# Altium integrated library SJ2-25964A-SMT-TR-2.IntLib: 1 symbol
Pins are listed as number, name and electrical type; pins without a type are passive.

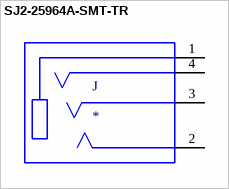
[diagram p0: symbol SJ2-25964A-SMT-TR]

## SJ2-25964A-SMT-TR
designator J
2.5 mm, Stereo, Right Angle, Surface Mount (SMT), Audio Jack Connector; MP: SJ2-25964A-SMT-TR; MF: CUI Devices; Package: None; Availability: Unavailable; Value: *; SnapEDA_Link: https://www.snapeda.com/parts/SJ2-25964A-SMT-TR/CUI%20Devices/view-part/1316417/?ref=snap; Price: None
footprint CUI_SJ2-25964A-SMT-TR
pins: 1 SLEEVE, 2 TIP, 3 RING1, 4 RING2